# Altium footprint library BZT52C3V3T-7.PcbLib: 1 footprints
Each footprint in its own frame and in the unit in brackets; x right, y up, seen from the top. Pads: shape width x height; smd on the part's side, far side on the other; paste and mask are expansions set on the pad; w line width, h text height; cw(c..) or ccw(c..) is an arc to the next point about the centre after c.
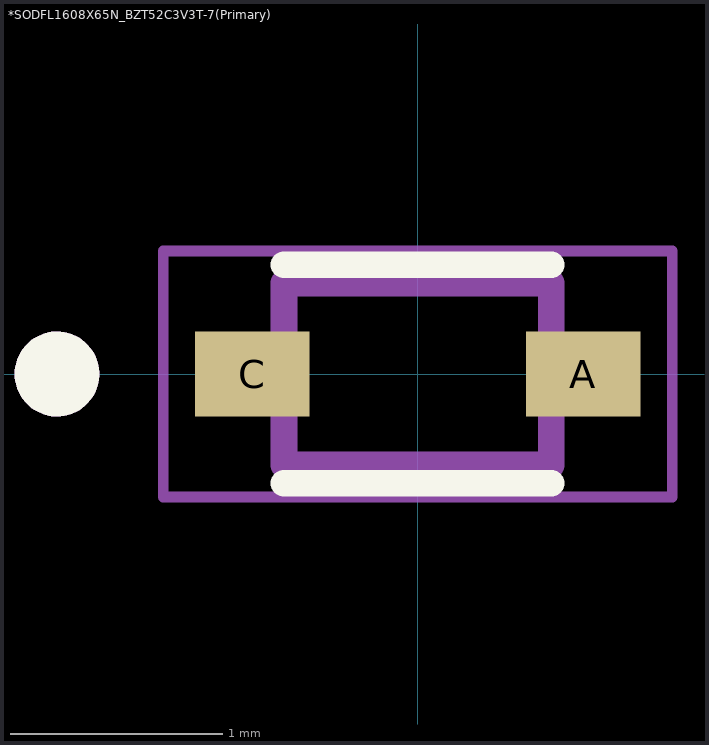
[diagram p0: the footprint, top view; thin cyan lines are the x and y axes]

## *SODFL1608X65N_BZT52C3V3T-7(Primary) [mm]
pads (2):
  rect 0.54x0.4 smd: A(0.78,0) C(-0.78,0)
Top Overlay:
  circle w0.2: c-1.7,0 r0.1
  lines w0.127: -0.63,-0.515 0.63,-0.515 ; -0.63,0.515 0.63,0.515
Mechanical 13:
  circle w0.2: c-1.7,0 r0.1
  circle w0.2: c-1.7,0 r0.1
  lines w0.127: -0.63,-0.43 0.63,-0.43 ; -0.63,-0.43 -0.63,0.43 ; -0.63,-0.43 0.63,-0.43 ; -0.63,-0.43 -0.63,0.43 ; -0.63,0.43 0.63,0.43 ; -0.63,0.43 0.63,0.43 ; 0.63,-0.43 0.63,0.43 ; 0.63,-0.43 0.63,0.43
Mechanical 15:
  lines w0.05: -1.2,-0.58 1.2,-0.58 1.2,0.58 -1.2,0.58 -1.2,-0.58